# EAGLE library part LM358 (library chuong)
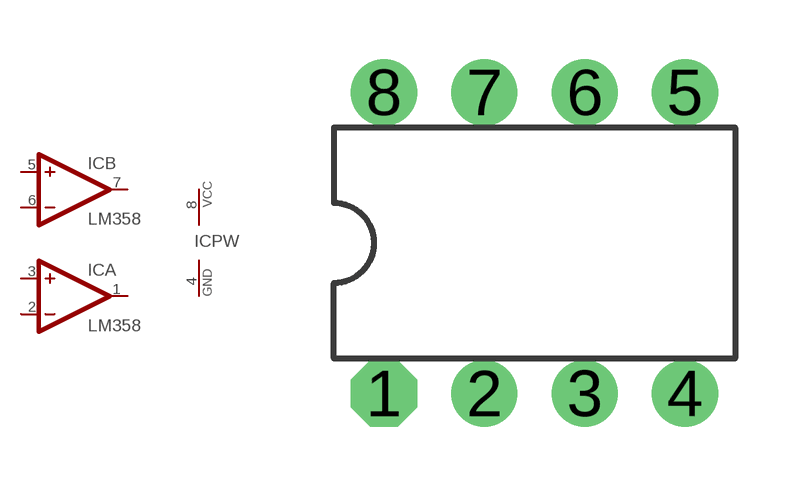
[diagram p19: symbol with the pads of DIL-8; footprint DIL-8]

Designator prefix IC; gates A=LM358 B=LM358 PW=POWER

## LM358  [DIL-8]
1  A:OUT  out
2  A:-IN  in
3  A:+IN  in
4  PW:GND  pwr
5  B:+IN  in
6  B:-IN  in
7  B:OUT  out
8  PW:VCC  pwr

## Footprint DIL-8 (pad centres in mm)
drill 0.61 pad 1.676 octagon: 1 -3.81,-3.81
drill 0.61 pad 1.676 round: 2 -1.27,-3.81; 3 1.27,-3.81; 4 3.81,-3.81; 5 3.81,3.81; 6 1.27,3.81; 7 -1.27,3.81; 8 -3.81,3.81